# Altium schematic symbol library ESP32-C3.SchLib: 1 symbol
Pins are listed as number, name and electrical type; pins without a type are passive.

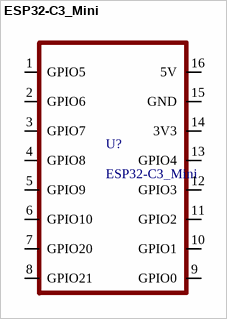
[diagram p0: symbol ESP32-C3_Mini]

## ESP32-C3_Mini
designator U?
footprint ESP32-C3
footprint ESP32-C3_PLS
pins: 1 GPIO5, 2 GPIO6, 3 GPIO7, 4 GPIO8, 5 GPIO9, 6 GPIO10, 7 GPIO20, 8 GPIO21, 9 GPIO0, 10 GPIO1, 11 GPIO2, 12 GPIO3, 13 GPIO4, 14 3V3, 15 GND, 16 5V